# Altium footprint library Cap_Snubber_Pcb.PcbLib: 1 footprints
Each footprint in its own frame and in the unit in brackets; x right, y up, seen from the top. Pads: shape width x height; smd on the part's side, far side on the other; paste and mask are expansions set on the pad; w line width, h text height; cw(c..) or ccw(c..) is an arc to the next point about the centre after c.
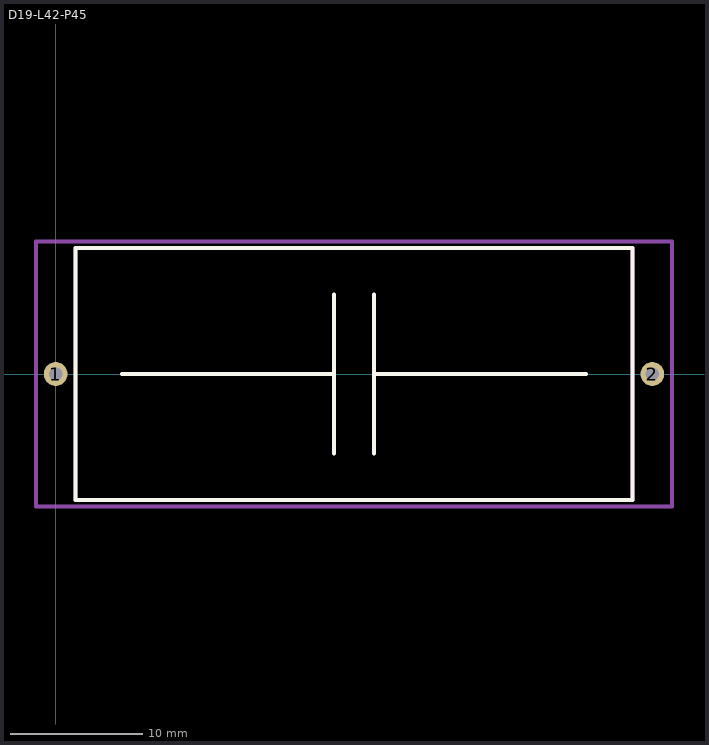
[diagram p0: the footprint, top view; thin cyan lines are the x and y axes]

## D19-L42-P45 [mm]
pads (2):
  round 1.8 hole 1: 1(0,0) 2(45,0)
Top Overlay:
  lines w0.3: 5,0 21,0 ; 21,-6 21,6 ; 24,-6 24,6 ; 24,0 40,0 ; 1.5,-9.5 1.5,0 1.5,9.5 43.5,9.5 43.5,0 43.5,-9.5 1.5,-9.5
Mechanical 13:
  lines w0.3: 1.5,-9.5 1.5,0 1.5,9.5 43.5,9.5 43.5,0 43.5,-9.5 1.5,-9.5
  text ".Designator" at 2,-8.718 h1.5
Mechanical 15:
  lines w0.3: -1.5,-10 -1.5,0 -1.5,10 46.5,10 46.5,-10 -1.5,-10